# EAGLE library part INA219BIDCNT (library SamacSys_Parts)
INA219BIDCNT, Intelligent Power Switch High Side Current Shunt, Power Monitor, 0.01A, 5.5V, 8-Pin, SOT-23 Source: Datasheet <http://www.ti.com/lit/ds/symlink/ina219.pdf>
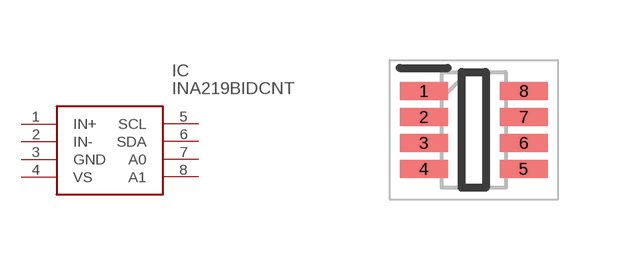
[diagram p3: symbol with the pads of SOT65P280X145-8N; footprint SOT65P280X145-8N]

Designator prefix IC

## INA219BIDCNT (Arrow_Part_Number: INA219BIDCNT; Arrow_Price-Stock: https://www.arrow.com/en/products/ina219bidcnt/texas-instruments; Description: INA219BIDCNT, Intelligent Power Switch High Side Current Shunt, Power Monitor, 0.01A, 5.5V, 8-Pin, SOT-23; Height: 1.45mm; Manufacturer_Name: Texas Instruments; Manufacturer_Part_Number: INA219BIDCNT; Mouser_Part_Number: 595-INA219BIDCNT; Mouser_Price-Stock: https://www.mouser.co.uk/ProductDetail/Texas-Instruments/INA219BIDCNT?qs=1WmUhT%2FVMIMmEKxVjzYikA%3D%3D)  [SOT65P280X145-8N]
1  IN+
2  IN-
3  GND
4  VS
5  SCL
6  SDA
7  A0
8  A1

## Footprint SOT65P280X145-8N (pad centres in mm)
DCN (R-PDSO-G8)
smd 1.2 x 0.45: 1 -1.25,0.975; 2 -1.25,0.325; 3 -1.25,-0.325; 4 -1.25,-0.975; 5 1.25,-0.975; 6 1.25,-0.325; 7 1.25,0.325; 8 1.25,0.975